# EAGLE library part TEENSYPP (library teensypp)
teensyPP
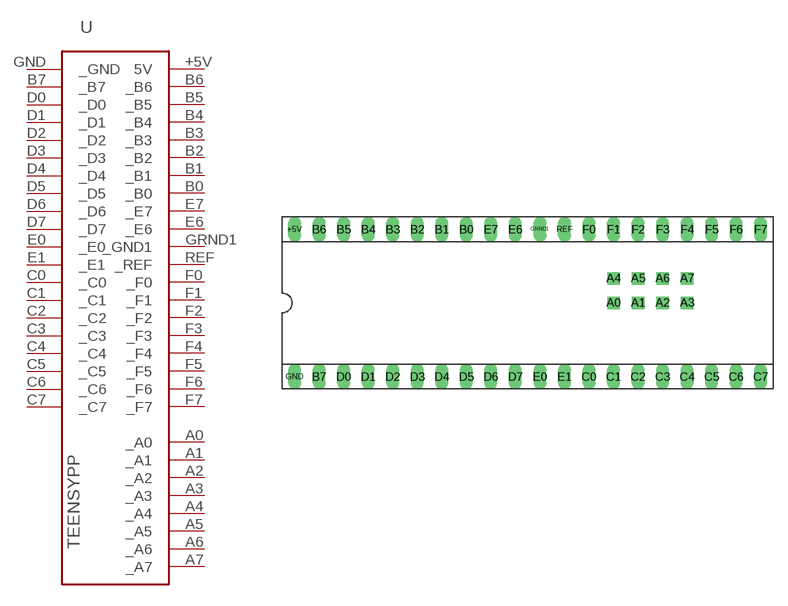
[diagram p0: symbol with the pads of TEENSYPP; footprint TEENSYPP]

Designator prefix -

## TEENSYPP  [TEENSYPP]
+5V  5V
A0  _A0
A1  _A1
A2  _A2
A3  _A3
A4  _A4
A5  _A5
A6  _A6
A7  _A7
B0  _B0
B1  _B1
B2  _B2
B3  _B3
B4  _B4
B5  _B5
B6  _B6
B7  _B7
C0  _C0
C1  _C1
C2  _C2
C3  _C3
C4  _C4
C5  _C5
C6  _C6
C7  _C7
D0  _D0
D1  _D1
D2  _D2
D3  _D3
D4  _D4
D5  _D5
D6  _D6
D7  _D7
E0  _E0
E1  _E1
E6  _E6
E7  _E7
F0  _F0
F1  _F1
F2  _F2
F3  _F3
F4  _F4
F5  _F5
F6  _F6
F7  _F7
GND  _GND
GRND1  _GND1
REF  _REF

## Footprint TEENSYPP (pad centres in mm)
teensy ++ pcb
drill 0.813 long: +5V -24.13,7.62; B0 -6.35,7.62; B1 -8.89,7.62; B2 -11.43,7.62; B3 -13.97,7.62; B4 -16.51,7.62; B5 -19.05,7.62; B6 -21.59,7.62; B7 -21.59,-7.62; C0 6.35,-7.62; C1 8.89,-7.62; C2 11.43,-7.62; C3 13.97,-7.62; C4 16.51,-7.62; C5 19.05,-7.62; C6 21.59,-7.62; C7 24.13,-7.62; D0 -19.05,-7.62; D1 -16.51,-7.62; D2 -13.97,-7.62; D3 -11.43,-7.62; D4 -8.89,-7.62; D5 -6.35,-7.62; D6 -3.81,-7.62; D7 -1.27,-7.62; E0 1.27,-7.62; E1 3.81,-7.62; E6 -1.27,7.62; E7 -3.81,7.62; F0 6.35,7.62; F1 8.89,7.62; F2 11.43,7.62; F3 13.97,7.62; F4 16.51,7.62; F5 19.05,7.62; F6 21.59,7.62; F7 24.13,7.62; GND -24.13,-7.62; GRND1 1.27,7.62; REF 3.81,7.62
drill 0.8 square: A0 8.89,0; A1 11.43,0; A2 13.97,0; A3 16.51,0; A4 8.89,2.54; A5 11.43,2.54; A6 13.97,2.54; A7 16.51,2.54